# Altium schematic symbol library QUTMS_FuseLibrary.SchLib: 1 symbol
Pins are listed as number, name and electrical type; pins without a type are passive.

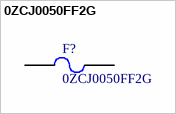
[diagram p0: symbol 0ZCJ0050FF2G]

## 0ZCJ0050FF2G
designator F?
Polymeric PTC Resettable Fuse 8V 500mA Ih Surface Mount 1206 (3216 Metric), Concave
footprint 1206 Fuse
pins: 1, 2